# Altium schematic symbol library TTL-RS485.Schlib: 1 symbol
Pins are listed as number, name and electrical type; pins without a type are passive.

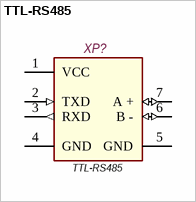
[diagram p0: symbol TTL-RS485]

## TTL-RS485
designator XP?
UART TTL to RS485 Two-way Converter Module; MPN: *; Manufacturer: *; ComponentLinkURL: https://www.amphenol-icc.com/media/wysiwyg/files/drawing/10051922.pdf; Supplier 1: *; Supplier 2: *; PackageReference: TTL-RS485; Value: TTL-RS485
footprint TTL-RS485 (UART TTL to RS485 Two-way Converter Module)
pins: 1 VCC (power), 2 TXD (in), 3 RXD (out), 4 GND (power), 5 GND (power), 6 B - (io), 7 A + (io)